# EAGLE library part BUK7K6R2-40EX (library mosfet)
MOSFET 2N-CH 40V 40A 56LFPAK
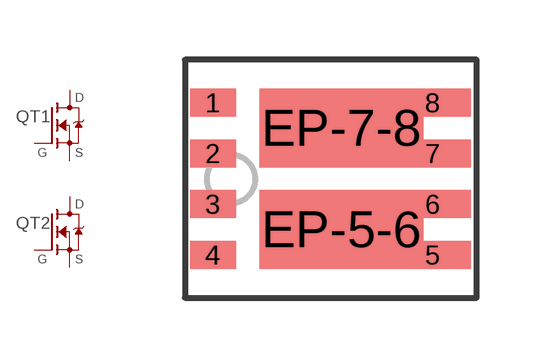
[diagram p3: symbol with the pads of SOT-1205; footprint SOT-1205]

Designator prefix Q; gates T1=N-MOSFET T2=N-MOSFET

## BUK7K6R2-40EX (DIGIKEY#: 568-11626-1-ND; MANF: NXP Semiconductors; MANF#: BUK7K6R2-40EX; PACKAGE: 56LFPAK)  [SOT-1205]
1  T1:S  pas
2  T1:G  pas
3  T2:S  pas
4  T2:G  pas
5  T2:D  pas
6  T2:D  pas
7  T1:D  pas
8  T1:D  pas
EP-5-6  T2:D  pas
EP-7-8  T1:D  pas

## Footprint SOT-1205 (pad centres in mm)
http://www.nxp.com/documents/reflow_soldering/sot1205_fr.pdf
smd 1.15 x 0.7: 1 -2.95,1.905; 2 -2.95,0.635; 3 -2.95,-0.635; 4 -2.95,-1.905
smd 1.9 x 0.7: 5 2.553,-1.905; 6 2.553,-0.635; 7 2.553,0.635; 8 2.553,1.905
smd 4.1 x 1.97: EP-5-6 0.27,-1.27; EP-7-8 0.27,1.27